# EAGLE library part SST26VF016B (library ICs)
Flash Memory, 16 Mbit, 2M x 8bit, 104 MHz, SPI, SQI, SOIC, 8 Pins
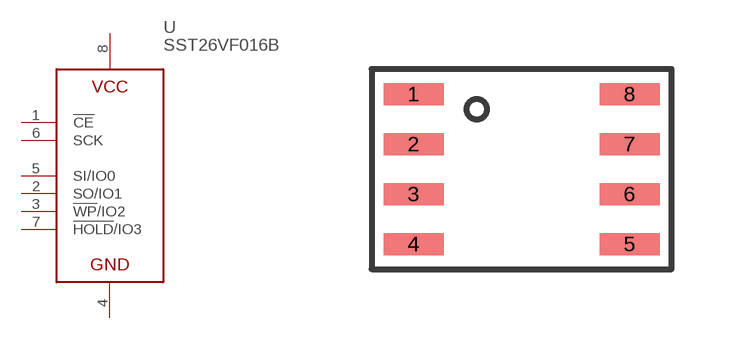
[diagram p168: symbol with the pads of SO8; footprint SO8]

Designator prefix U

## SST26VF016B-104I/SN (FARNELL: 2774949; PRICE_PER: 1.16; VALUE: SST26VF016B)  [SO8]
1  !CE
2  SO/IO1
3  !WP!/IO2
4  GND
5  SI/IO0
6  SCK
7  !HOLD!/IO3
8  VCC

## Footprint SO8 (pad centres in mm)
smd 1.5 x 0.55: 1 -2.7,1.875; 2 -2.7,0.625; 3 -2.7,-0.625; 4 -2.7,-1.875; 5 2.7,-1.875; 6 2.7,-0.625; 7 2.7,0.625; 8 2.7,1.875